# EAGLE library part MK20DX256VLH7 (library SamacSys_Parts)
NXP MK20DX256VLH7 ARM Cortex M4 MCU, 72MHz, 288 kB Flash, 64-Pin LQFP Source: Datasheet <http://www.nxp.com/docs/en/data-sheet/K20P64M72SF1.pdf>
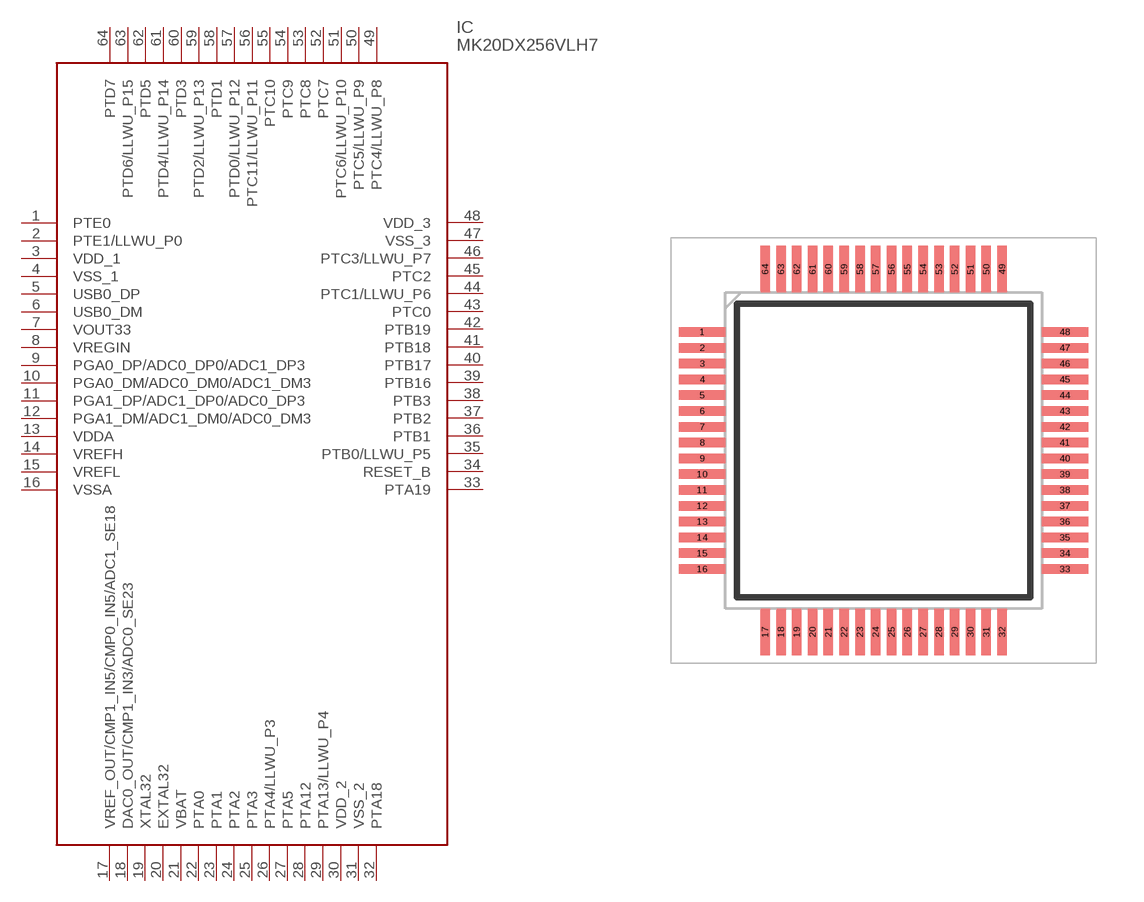
[diagram p159: symbol with the pads of QFP50P1200X1200X160-64N; footprint QFP50P1200X1200X160-64N]

Designator prefix IC

## MK20DX256VLH7 (DESCRIPTION: NXP MK20DX256VLH7 ARM Cortex M4 MCU, 72MHz, 288 kB Flash, 64-Pin LQFP; HEIGHT: 1.6mm; MANUFACTURER_NAME: NXP; MANUFACTURER_PART_NUMBER: MK20DX256VLH7; MOUSER_PART_NUMBER: 841-MK20DX256VLH7; MOUSER_PRICE-STOCK: https://www.mouser.co.uk/ProductDetail/NXP-Semiconductors/MK20DX256VLH7?qs=b%252B6ZnhyoAL%2FVf1Ewi0iu9Q%3D%3D)  [QFP50P1200X1200X160-64N]
1  PTE0
2  PTE1/LLWU_P0
3  VDD_1
4  VSS_1
5  USB0_DP
6  USB0_DM
7  VOUT33
8  VREGIN
9  PGA0_DP/ADC0_DP0/ADC1_DP3
10  PGA0_DM/ADC0_DM0/ADC1_DM3
11  PGA1_DP/ADC1_DP0/ADC0_DP3
12  PGA1_DM/ADC1_DM0/ADC0_DM3
13  VDDA
14  VREFH
15  VREFL
16  VSSA
17  VREF_OUT/CMP1_IN5/CMP0_IN5/ADC1_SE18
18  DAC0_OUT/CMP1_IN3/ADC0_SE23
19  XTAL32
20  EXTAL32
21  VBAT
22  PTA0
23  PTA1
24  PTA2
25  PTA3
26  PTA4/LLWU_P3
27  PTA5
28  PTA12
29  PTA13/LLWU_P4
30  VDD_2
31  VSS_2
32  PTA18
33  PTA19
34  RESET_B
35  PTB0/LLWU_P5
36  PTB1
37  PTB2
38  PTB3
39  PTB16
40  PTB17
41  PTB18
42  PTB19
43  PTC0
44  PTC1/LLWU_P6
45  PTC2
46  PTC3/LLWU_P7
47  VSS_3
48  VDD_3
49  PTC4/LLWU_P8
50  PTC5/LLWU_P9
51  PTC6/LLWU_P10
52  PTC7
53  PTC8
54  PTC9
55  PTC10
56  PTC11/LLWU_P11
57  PTD0/LLWU_P12
58  PTD1
59  PTD2/LLWU_P13
60  PTD3
61  PTD4/LLWU_P14
62  PTD5
63  PTD6/LLWU_P15
64  PTD7

## Footprint QFP50P1200X1200X160-64N (pad centres in mm)
LQFP (10x10x1.4)
smd 1.475 x 0.3: 1 -5.738,3.75; 2 -5.738,3.25; 3 -5.738,2.75; 4 -5.738,2.25; 5 -5.738,1.75; 6 -5.738,1.25; 7 -5.738,0.75; 8 -5.738,0.25; 9 -5.738,-0.25; 10 -5.738,-0.75; 11 -5.738,-1.25; 12 -5.738,-1.75; 13 -5.738,-2.25; 14 -5.738,-2.75; 15 -5.738,-3.25; 16 -5.738,-3.75; 33 5.738,-3.75; 34 5.738,-3.25; 35 5.738,-2.75; 36 5.738,-2.25; 37 5.738,-1.75; 38 5.738,-1.25; 39 5.738,-0.75; 40 5.738,-0.25; 41 5.738,0.25; 42 5.738,0.75; 43 5.738,1.25; 44 5.738,1.75; 45 5.738,2.25; 46 5.738,2.75; 47 5.738,3.25; 48 5.738,3.75
smd 0.3 x 1.475: 17 -3.75,-5.738; 18 -3.25,-5.738; 19 -2.75,-5.738; 20 -2.25,-5.738; 21 -1.75,-5.738; 22 -1.25,-5.738; 23 -0.75,-5.738; 24 -0.25,-5.738; 25 0.25,-5.738; 26 0.75,-5.738; 27 1.25,-5.738; 28 1.75,-5.738; 29 2.25,-5.738; 30 2.75,-5.738; 31 3.25,-5.738; 32 3.75,-5.738; 49 3.75,5.738; 50 3.25,5.738; 51 2.75,5.738; 52 2.25,5.738; 53 1.75,5.738; 54 1.25,5.738; 55 0.75,5.738; 56 0.25,5.738; 57 -0.25,5.738; 58 -0.75,5.738; 59 -1.25,5.738; 60 -1.75,5.738; 61 -2.25,5.738; 62 -2.75,5.738; 63 -3.25,5.738; 64 -3.75,5.738